# Altium integrated library 2N3055.IntLib: 1 symbol
Pins are listed as number, name and electrical type; pins without a type are passive.

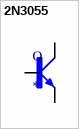
[diagram p0: symbol 2N3055]

## 2N3055
designator Q
Bipolar _BJT_ Transistor NPN 60V 15A 115W Chassis Mount TO-3; MP: 2N3055; MF: STMicroelectronics; SnapEDA_Link: https://www.snapeda.com/parts/2N3055/STMicroelectronics/view-part/2753103/?ref=snap; Availability: Unavailable; Value: *; Price: None; Package: TO-3 RCA
footprint TO3A
pins: B, C, C1 C, E